# EAGLE library part MF07 (library MRDT-Connectors)
Micro-Fit 3.0 7-pin connector
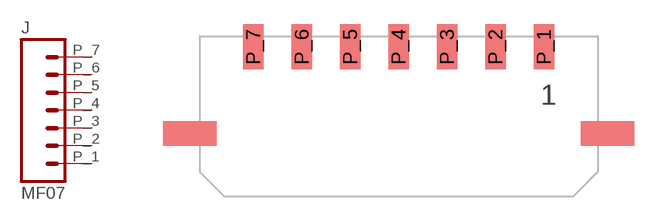
[diagram p1: symbol with the pads of MOLEX_43650-07; footprint MOLEX_43650-07]

Designator prefix J

## MF07  [MOLEX_43650-07]
P_1  1  pas
P_2  2  pas
P_3  3  pas
P_4  4  pas
P_5  5  pas
P_6  6  pas
P_7  7  pas

## Footprint MOLEX_43650-07 (pad centres in mm)
smd 1.27 x 2.794: P_1 8.966,4.851; P_2 5.969,4.851; P_3 2.972,4.851; P_4 -0.025,4.851; P_5 -3.023,4.851; P_6 -6.02,4.851; P_7 -9.017,4.851